# Altium schematic symbol library WL-SMRD.SchLib: 5 symbols
Pins are listed as number, name and electrical type; pins without a type are passive.

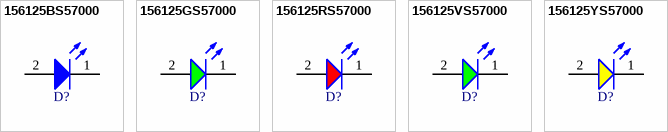
[diagram p0: symbols 156125BS57000 to 156125YS57000]

## 156125BS57000
designator D?, comment Blue, 3.2V, 160°  (value not drawn)
WL-SMRD Mono-color Reverse Mount Diffused, size 1205, Blue, 3.2V, 160°; Manufacturer Part Number: 156125BS57000; Manufacturer: Wurth Elektronik; Case/Size Code: 1205; Chip Technology: InGaN; Dominant Wavelength: 470nm; Luminous Intensity: 80mcd; Peak Wavelength: 465nm; Category: Signal LEDs; Match Code: WL-SMRD; ComponentLink1Description: Website Link; ComponentLink1URL: https://www.we-online.com/redexpert/article/156125BS57000?ad; ComponentLink2Description: Datasheet Link; ComponentLink2URL: https://www.we-online.com/redexpert/spec/156125BS57000?ad; Mount: Surface Mount; Operating Temperature Max: 85°C; Operating Temperature Min: -40°C; Packaging: Tape and Reel; Length: 3.2mm; Width: 1.2mm; Height: 1.1mm; Emitting Color: Blue; Forward Voltage: 3.2V; Viewing Angle: 160°
footprint WL-SMRD_1205_reverse use
footprint WL-SMRD_1205_normal use
simulation model 1205_156125BS57000
pins: 1 K, 2 A

## 156125GS57000
designator D?, comment Green, 3.3V, 160°  (value not drawn)
WL-SMRD Mono-color Reverse Mount Diffused, size 1205, Green, 3.3V, 160°; Manufacturer Part Number: 156125GS57000; Manufacturer: Wurth Elektronik; Case/Size Code: 1205; Chip Technology: InGaN; Dominant Wavelength: 525nm; Luminous Intensity: 200mcd; Peak Wavelength: 520nm; Category: Signal LEDs; Match Code: WL-SMRD; ComponentLink1Description: Website Link; ComponentLink1URL: https://www.we-online.com/redexpert/article/156125GS57000?ad; ComponentLink2Description: Datasheet Link; ComponentLink2URL: https://www.we-online.com/redexpert/spec/156125GS57000?ad; Mount: Surface Mount; Operating Temperature Max: 85°C; Operating Temperature Min: -40°C; Packaging: Tape and Reel; Length: 3.2mm; Width: 1.2mm; Height: 1.1mm; Emitting Color: Green; Forward Voltage: 3.3V; Viewing Angle: 160°
footprint WL-SMRD_1205_reverse use
footprint WL-SMRD_1205_normal use
simulation model 1205_156125GS57000
pins: 1 K, 2 A

## 156125RS57000
designator D?, comment Red, 2V, 160°  (value not drawn)
WL-SMRD Mono-color Reverse Mount Diffused, size 1205, Red, 2V, 160°; Manufacturer Part Number: 156125RS57000; Manufacturer: Wurth Elektronik; Case/Size Code: 1205; Chip Technology: AlInGaP; Dominant Wavelength: 624nm; Luminous Intensity: 110mcd; Peak Wavelength: 632nm; Category: Signal LEDs; Match Code: WL-SMRD; ComponentLink1Description: Website Link; ComponentLink1URL: https://www.we-online.com/redexpert/article/156125RS57000?ad; ComponentLink2Description: Datasheet Link; ComponentLink2URL: https://www.we-online.com/redexpert/spec/156125RS57000?ad; Mount: Surface Mount; Operating Temperature Max: 85°C; Operating Temperature Min: -40°C; Packaging: Tape and Reel; Length: 3.2mm; Width: 1.2mm; Height: 1.1mm; Emitting Color: Red; Forward Voltage: 2V; Viewing Angle: 160°
footprint WL-SMRD_1205_reverse use
footprint WL-SMRD_1205_normal use
simulation model 1205_156125RS57000
pins: 1 K, 2 A

## 156125VS57000
designator D?, comment Bright Green, 2V, 160°  (value not drawn)
WL-SMRD Mono-color Reverse Mount Diffused, size 1205, Bright Green, 2V, 160°; Manufacturer Part Number: 156125VS57000; Manufacturer: Wurth Elektronik; Case/Size Code: 1205; Chip Technology: AlInGaP; Dominant Wavelength: 573nm; Luminous Intensity: 40mcd; Peak Wavelength: 575nm; Category: Signal LEDs; Match Code: WL-SMRD; ComponentLink1Description: Website Link; ComponentLink1URL: https://www.we-online.com/redexpert/article/156125VS57000?ad; ComponentLink2Description: Datasheet Link; ComponentLink2URL: https://www.we-online.com/redexpert/spec/156125VS57000?ad; Mount: Surface Mount; Operating Temperature Max: 85°C; Operating Temperature Min: -40°C; Packaging: Tape and Reel; Length: 3.2mm; Width: 1.2mm; Height: 1.1mm; Emitting Color: Bright Green; Forward Voltage: 2V; Viewing Angle: 160°
footprint WL-SMRD_1205_reverse use
footprint WL-SMRD_1205_normal use
simulation model 1205_156125VS57000
pins: 1 K, 2 A

## 156125YS57000
designator D?, comment Yellow, 2V, 160°  (value not drawn)
WL-SMRD Mono-color Reverse Mount Diffused, size 1205, Yellow, 2V, 160°; Manufacturer Part Number: 156125YS57000; Manufacturer: Wurth Elektronik; Case/Size Code: 1205; Chip Technology: AlInGaP; Dominant Wavelength: 589nm; Luminous Intensity: 70mcd; Peak Wavelength: 591nm; Category: Signal LEDs; Match Code: WL-SMRD; ComponentLink1Description: Website Link; ComponentLink1URL: https://www.we-online.com/redexpert/article/156125YS57000?ad; ComponentLink2Description: Datasheet Link; ComponentLink2URL: https://www.we-online.com/redexpert/spec/156125YS57000?ad; Mount: Surface Mount; Operating Temperature Max: 85°C; Operating Temperature Min: -40°C; Packaging: Tape and Reel; Length: 3.2mm; Width: 1.2mm; Height: 1.1mm; Emitting Color: Yellow; Forward Voltage: 2V; Viewing Angle: 160°
footprint WL-SMRD_1205_reverse use
footprint WL-SMRD_1205_normal use
simulation model 1205_156125YS57000
pins: 1 K, 2 A